# Altium integrated library Analog Devices Data Converters Analog-to-Digital Converters.IntLib: 2400 symbols (part 230 of 338)
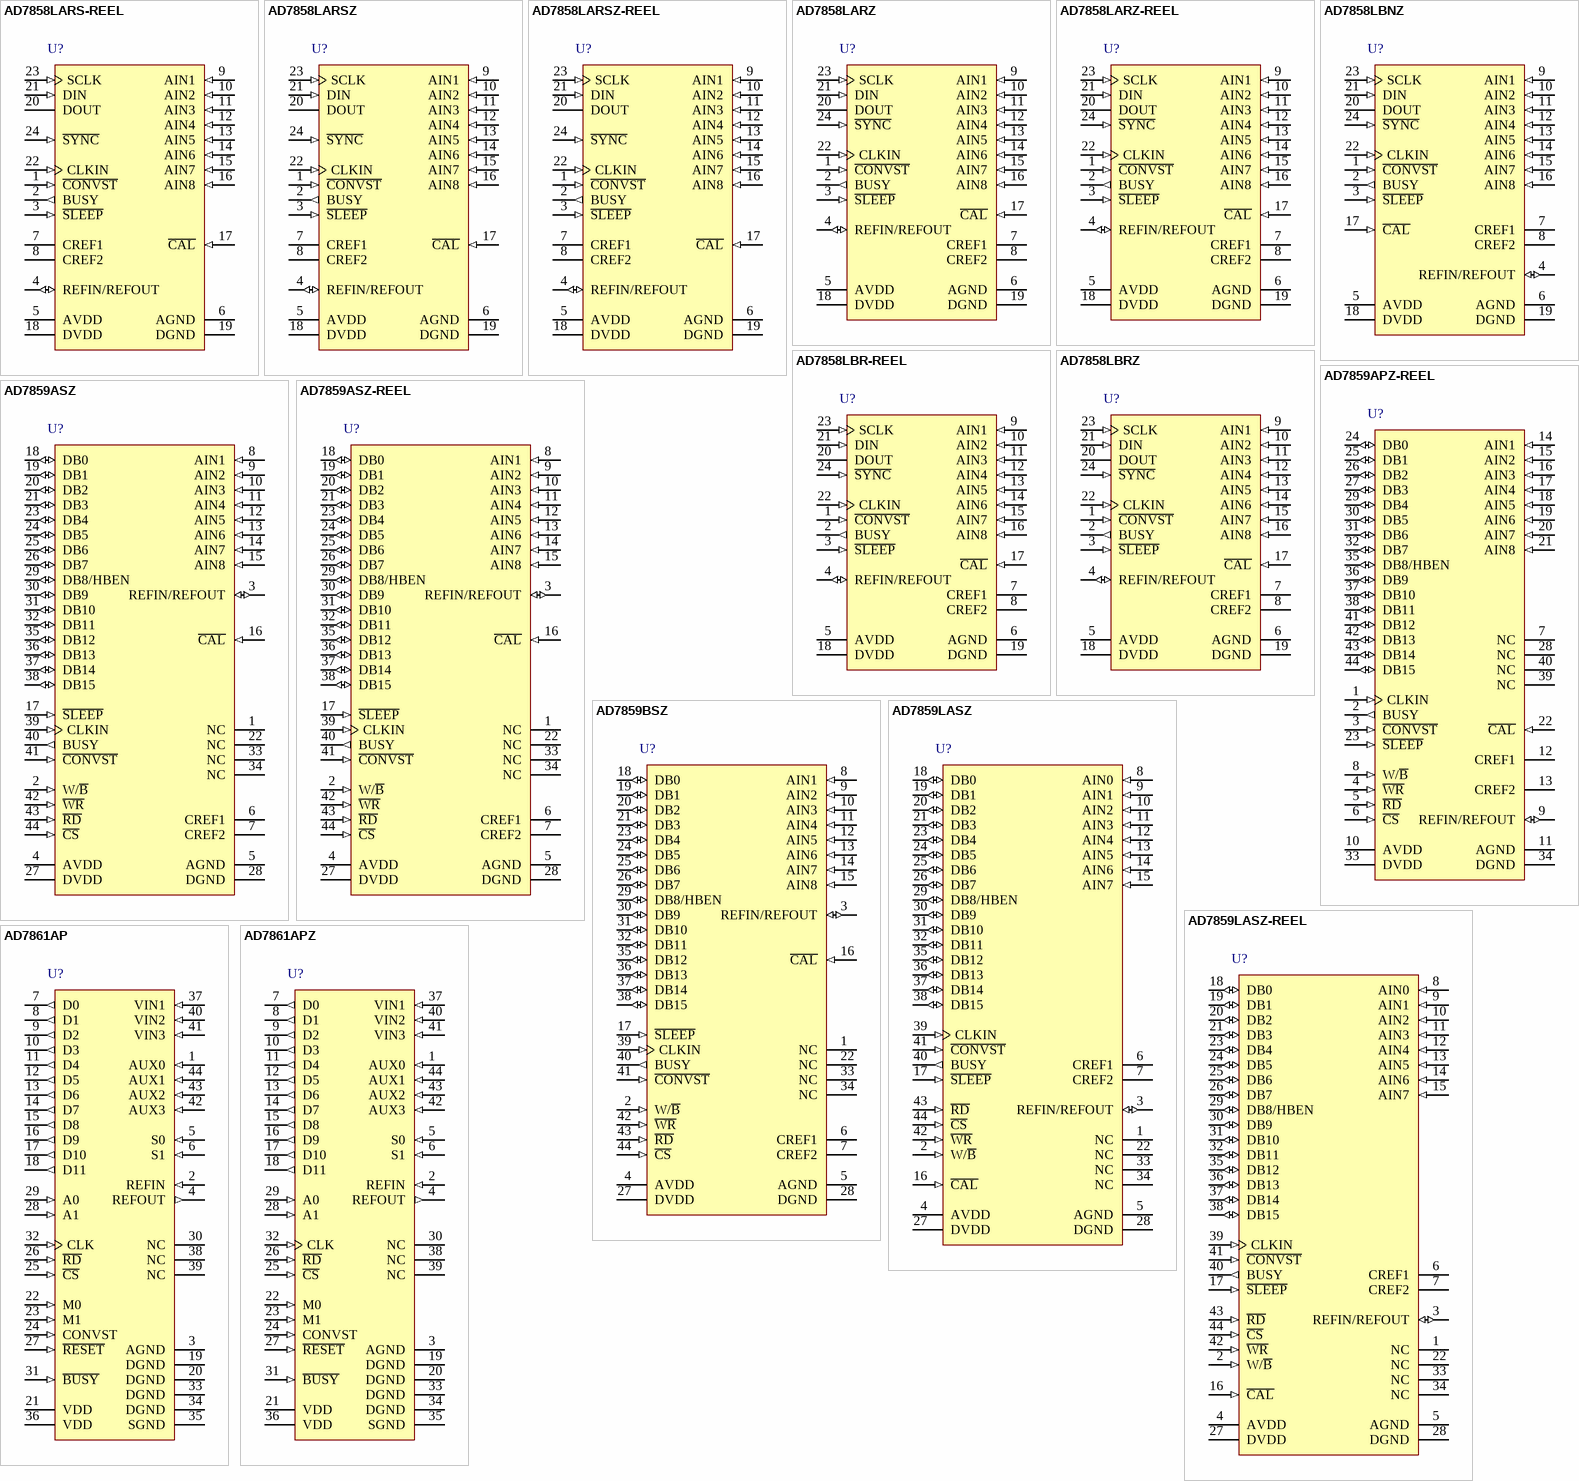
[diagram p380: symbols AD7858LARS-REEL to AD7861APZ]

## AD7859APZ-REEL
designator U?
Octal 12-Bit Sampling Analog-to-Digital Converter with Byte, Parallel Interface, Single Supply, 3 V 200KSPS, -40 to +85 degC, P-44A, Pb-Free, Reel; Part Number: AD7859-200; Manufacturer: Analog Devices; Resolution (Bits): 12; Channels: 8; Throughput Rate (SPS): 200K; DatasheetVersion: Rev.A; PackageVersion: 2003; PackageReference: P-44A; PackageDescription: 44-Lead Plastic Leaded Chip Carrier [PLCC]; Interface: Byte, Par; RoHS: Y; Packing: Reel; Mounting Technology: Surface Mount; Code_JEDEC: MO-047-AC; Code_IPC: PLCC-44; ComponentLink1Description: Manufacturer URL; ComponentLink1URL: http://www.analog.com/en/index.html; ComponentLink2Description: Datasheet; ComponentLink2URL: http://www.analog.com/static/imported-files/data_sheets/AD7859.pdf; ComponentLink3Description: Package Specification; ComponentLink3URL: http://www.analog.com/static/imported-files/packages/533756178731793364534243243792136664964P44A.pdf; ComponentLink4Description: Product URL; ComponentLink4URL: http://www.analog.com/en/analog-to-digital-converters/ad-converters/ad7859/products/product.html
footprint P-44A_N (Leaded Chip Carrier, 44-Leads, Body 16.6x16.6mm, Pitch 1.27mm, IPC Medium Density)
footprint P-44A_L (Leaded Chip Carrier, 44-Leads, Body 16.6x16.6mm, Pitch 1.27mm, IPC High Density)
footprint P-44A_M (Leaded Chip Carrier, 44-Leads, Body 16.6x16.6mm, Pitch 1.27mm, IPC Low Density)
pins: 1 CLKIN (in) "Convert Start. Logic input. A low to high transition on this input puts the track/hold into its hold mode and starts conversion. When this input is not used, it should be tied to DVDD", 2 BUSY (out) "Busy Output. The busy output is triggered high when a conversion or a calibration is initiated, and remains high until the conversion or calibration is completed.", 3 ~{CONVST} (in) "Convert Start. Logic input. A low to high transition on this input puts the track/hold into its hold mode and starts conversion. When this input is not used, it should be tied to DVDD.", 4 ~{WR} (in) "Write Input. Active low logic input. Used in conjunction with CS to write to internal registers.", 5 ~{RD} (in) "Read Input. Active low logic input. Used in conjunction with CS to read from internal registers.", 6 ~{CS} (in) "Chip Select Input. Active low logic input. The device is selected when this input is active", 7 NC "No connect pins. These pins should be left unconnected", 8 W/~{B} (in) "Word/Byte input. When this input is at a logic 1, data is transferred to and from the AD7859/AD7859L in 16-bit words on pins DB0 to DB15. When this pin is at a Logic 0, byte transfer mode is enabled. Data is transferred on (See Datasheet)", 9 REFIN/REFOUT (io) "Reference Input/Output. This pin is connected to the internal reference through a series resistor and is the reference source for the analog-to-digital converter. The nominal reference voltage is 2.5 V and this appears at (See Datasheet)", 10 AVDD (power) "Analog Supply Voltage, +3.0 V to +5.5 V.", 11 AGND (power) "Analog Ground. Ground reference for track/hold, reference and DAC.", 12 CREF1 "Reference Capacitor (0.1 mF multilayer ceramic). This external capacitor is used as a charge source for the internal DAC. The capacitor should be tied between the pin and AGND.", 13 CREF2 "Reference Capacitor (0.01 mF ceramic disc). This external capacitor is used in conjunction with the on-chip reference.The capacitor should be tied between the pin and AGND.", 14 AIN1 (in) "Analog Inputs. Eight analog inputs which can be used as eight single ended inputs (referenced to AGND) or four pseudo differential inputs. Channel configuration is selected by writing to the control register. None of the (See Datasheet)", 15 AIN2 (in) "Analog Inputs. Eight analog inputs which can be used as eight single ended inputs (referenced to AGND) or four pseudo differential inputs. Channel configuration is selected by writing to the control register. None of the (See Datasheet)", 16 AIN3 (in) "Analog Inputs. Eight analog inputs which can be used as eight single ended inputs (referenced to AGND) or four pseudo differential inputs. Channel configuration is selected by writing to the control register. None of the (See Datasheet)", 17 AIN4 (in) "Analog Inputs. Eight analog inputs which can be used as eight single ended inputs (referenced to AGND) or four pseudo differential inputs. Channel configuration is selected by writing to the control register. None of the (See Datasheet)", 18 AIN5 (in) "Analog Inputs. Eight analog inputs which can be used as eight single ended inputs (referenced to AGND) or four pseudo differential inputs. Channel configuration is selected by writing to the control register. None of the (See Datasheet)", 19 AIN6 (in) "Analog Inputs. Eight analog inputs which can be used as eight single ended inputs (referenced to AGND) or four pseudo differential inputs. Channel configuration is selected by writing to the control register. None of the (See Datasheet)", 20 AIN7 (in) "Analog Inputs. Eight analog inputs which can be used as eight single ended inputs (referenced to AGND) or four pseudo differential inputs. Channel configuration is selected by writing to the control register. None of the (See Datasheet)", 21 AIN8 (in) "Analog Inputs. Eight analog inputs which can be used as eight single ended inputs (referenced to AGND) or four pseudo differential inputs. Channel configuration is selected by writing to the control register. None of the (See Datasheet)", 22 ~{CAL} (in) "Calibration Input. A logic 0 in this pin resets all logic. A rising edge on this pin initiates a calibration. This input overrides all other internal operations.", 23 ~{SLEEP} (in) "Sleep Input. This pin is used in conjunction with the PGMT0 and PGMT1 bits in the control register to determine the power-down mode. Please see the “Power-Down Options” section for details.", 24 DB0 (io) "Data Bits 0. Three state data I/O pins that are controlled by C\S\, R\D\ and W\R\. Data output is straight binary (unipolar mode) or twos complement (bipolar mode).", 25 DB1 (io) "Data Bits 1. Three state data I/O pins that are controlled by C\S\, R\D\ and W\R\. Data output is straight binary (unipolar mode) or twos complement (bipolar mode).", 26 DB2 (io) "Data Bits 2. Three state data I/O pins that are controlled by C\S\, R\D\ and W\R\. Data output is straight binary (unipolar mode) or twos complement (bipolar mode).", 27 DB3 (io) "Data Bits 3. Three state data I/O pins that are controlled by C\S\, R\D\ and W\R\. Data output is straight binary (unipolar mode) or twos complement (bipolar mode).", 28 NC "No connect pins. These pins should be left unconnected.", 29 DB4 (io) "Data Bits 4. Three state data I/O pins that are controlled by C\S\, R\D\ and W\R\. Data output is straight binary (unipolar mode) or twos complement (bipolar mode).", 30 DB5 (io) "Data Bits5. Three state data I/O pins that are controlled by C\S\, R\D\ and W\R\. Data output is straight binary (unipolar mode) or twos complement (bipolar mode).", 31 DB6 (io) "Data Bits 6. Three state data I/O pins that are controlled by C\S\, R\D\ and W\R\. Data output is straight binary (unipolar mode) or twos complement (bipolar mode).", 32 DB7 (io) "Data Bits 7. Three state data I/O pins that are controlled by C\S\, R\D\ and W\R\. Data output is straight binary (unipolar mode) or twos complement (bipolar mode).", 33 DVDD (power) "Digital Supply Voltage, +3.0 V to +5.5 V.", 34 DGND (power) "Digital Ground. Ground reference point for digital circuitry.", 35 DB8/HBEN (io) "Data Bits 8 Three state data I/O pins that are controlled by C\S\, R\D\ and W\R\. Data output is straight binary (unipolar mode) or twos complement (bipolar mode).", 36 DB9 (io) "Data Bits 9 . Three state data I/O pins that are controlled by C\S\, R\D\ and W\R\. Data output is straight binary (unipolar mode) or twos complement (bipolar mode).", 37 DB10 (io) "Data Bits 10. Three state data I/O pins that are controlled by C\S\, R\D\ and W\R\. Data output is straight binary (unipolar mode) or twos complement (bipolar mode).", 38 DB11 (io) "Data Bits 11. Three state data I/O pins that are controlled by C\S\, R\D\ and W\R\. Data output is straight binary (unipolar mode) or twos complement (bipolar mode).", 39 NC "No connect pins. These pins should be left unconnected.", 40 NC "No connect pins. These pins should be left unconnected.", 41 DB12 (io) "Data Bits 12. Three state data I/O pins that are controlled by CS, RD and WR. Data output is straight binary (unipolar mode) or twos complement (bipolar mode).", 42 DB13 (io) "Data Bits 13. Three state data I/O pins that are controlled by CS, RD and WR. Data output is straight binary (unipolar mode) or twos complement (bipolar mode).", 43 DB14 (io) "Data Bits 14. Three state data I/O pins that are controlled by CS, RD and WR. Data output is straight binary (unipolar mode) or twos complement (bipolar mode).", 44 DB15 (io) "Data Bits 15. Three state data I/O pins that are controlled by CS, RD and WR. Data output is straight binary (unipolar mode) or twos complement (bipolar mode)."